# Altium schematic symbol library digital_misc.SchLib: 7 symbols
Pins are listed as number, name and electrical type; pins without a type are passive.

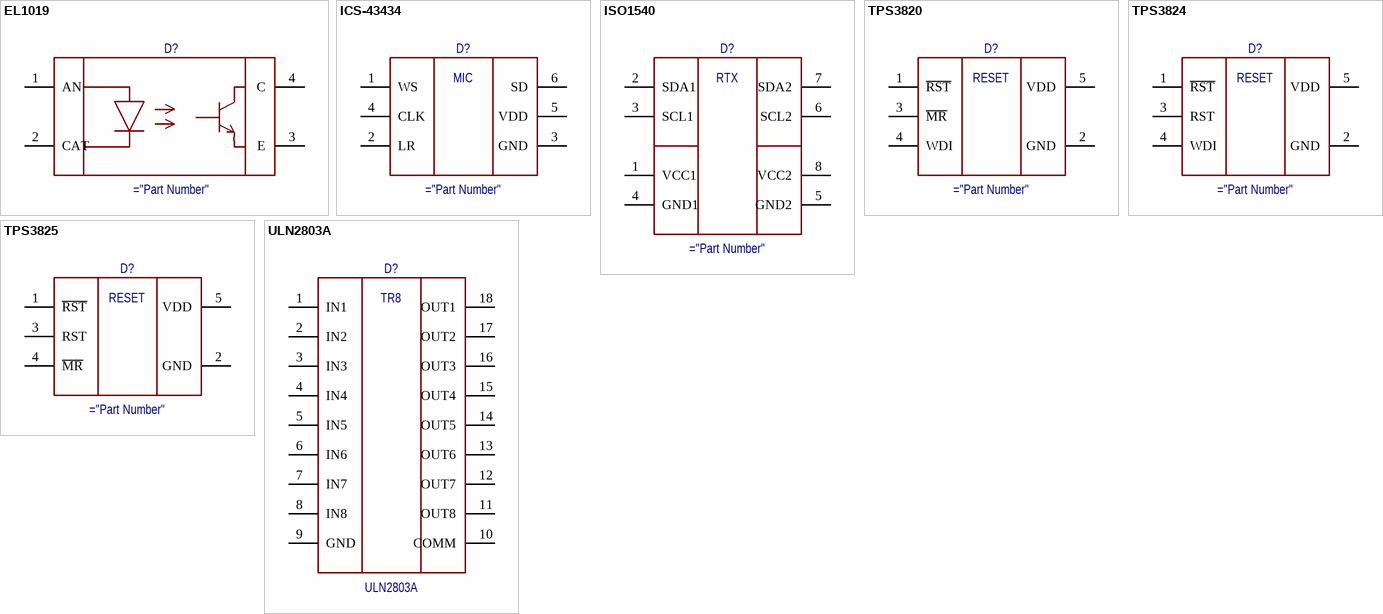
[diagram p0: symbols EL1019 to ULN2803A]

## EL1019
designator D?
Supervisors
pins: 1 AN, 2 CAT, 3 E, 4 C

## ICS-43434
designator D?
MEMS microhpone
pins: 1 WS, 2 LR, 3 GND, 4 CLK, 5 VDD, 6 SD
text: MIC

## ISO1540
designator D?
Isolated I2C tranciever
pins: 1 VCC1, 2 SDA1, 3 SCL1, 4 GND1, 5 GND2, 6 SCL2, 7 SDA2, 8 VCC2
text: RTX

## TPS3820
designator D?
Supervisors
pins: 1 ~{RST}, 2 GND, 3 ~{MR}, 4 WDI, 5 VDD
text: RESET

## TPS3824
designator D?
Supervisors
pins: 1 ~{RST}, 2 GND, 3 RST, 4 WDI, 5 VDD
text: RESET

## TPS3825
designator D?
Supervisors
pins: 1 ~{RST}, 2 GND, 3 RST, 4 ~{MR}, 5 VDD
text: RESET

## ULN2803A
designator D?
Матрица из восьми транзисторов Дарлингтона; Part number: ULN2803A
pins: 1 IN1, 2 IN2, 3 IN3, 4 IN4, 5 IN5, 6 IN6, 7 IN7, 8 IN8, 9 GND, 10 COMM, 11 OUT8, 12 OUT7, 13 OUT6, 14 OUT5, 15 OUT4, 16 OUT3, 17 OUT2, 18 OUT1
text: TR8